# Altium footprint library Connector_USB.PcbLib: 76 footprints (part 5 of 5)
Each footprint in its own frame and in the unit in brackets; x right, y up, seen from the top. Pads: shape width x height; smd on the part's side, far side on the other; paste and mask are expansions set on the pad; w line width, h text height; cw(c..) or ccw(c..) is an arc to the next point about the centre after c.
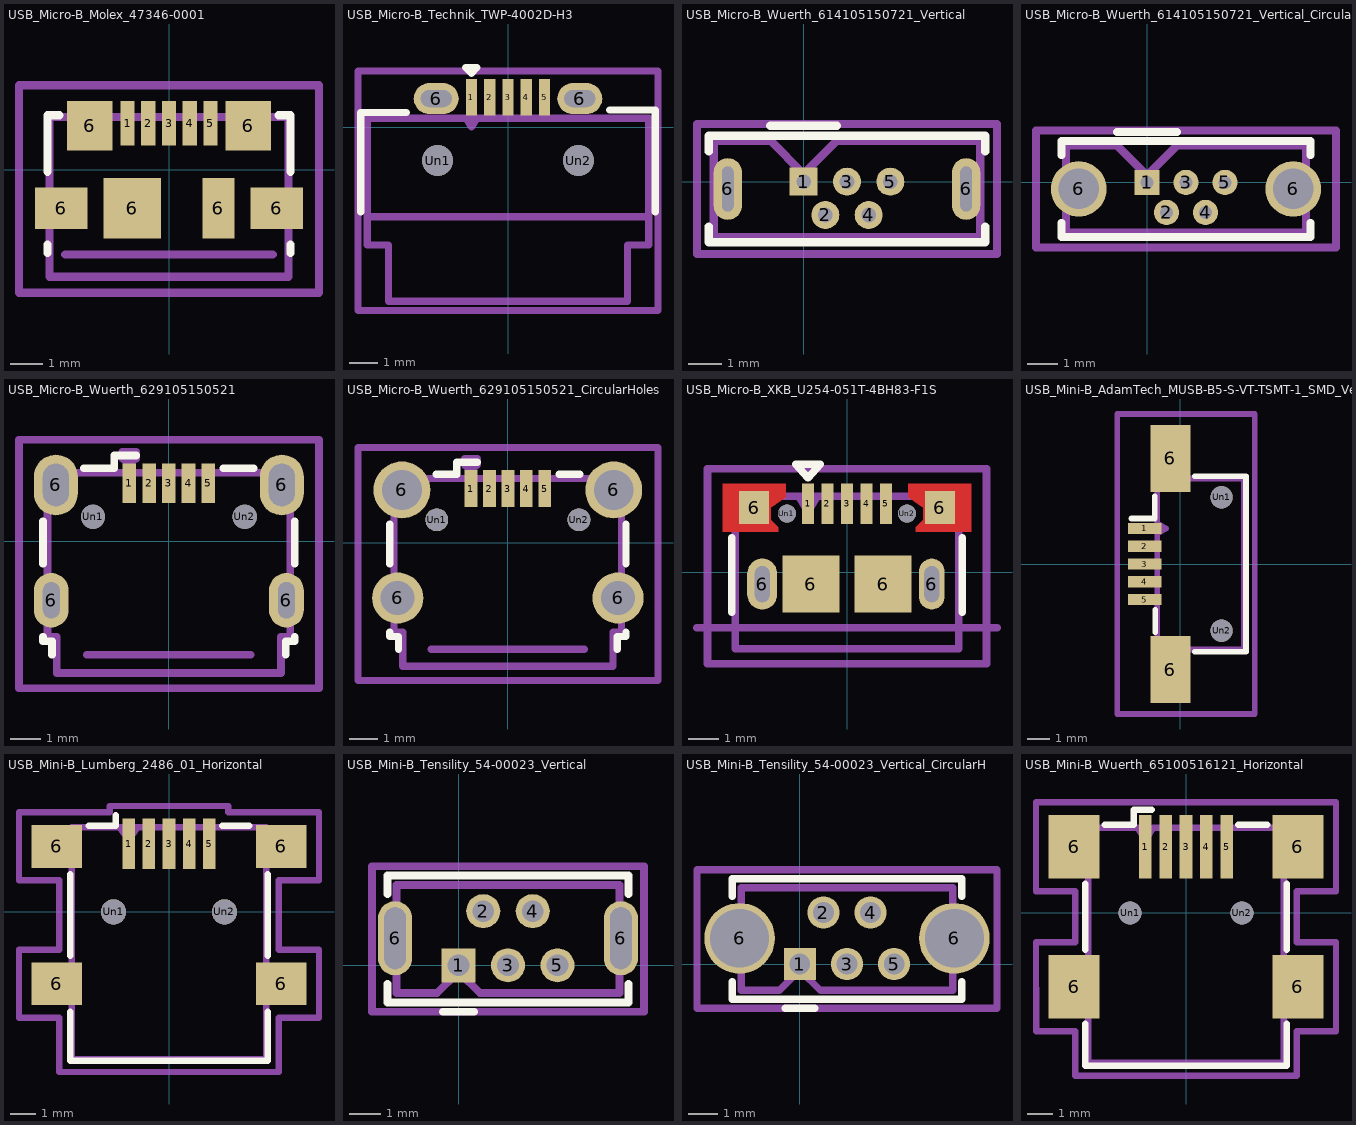
[diagram p4: the footprints below, top view; thin cyan lines are the x and y axes]

## USB_Micro-B_Molex_47346-0001 [mm]
pads (11):
  rect 0.45x1.38 smd: 1(-1.3,1.46) 2(-0.65,1.46) 3(0,1.46) 4(0.65,1.46) 5(1.3,1.46)
  rect 1.65x1.3 smd: 6(-3.375,-1.2) 6(3.375,-1.2)
  rect 1.425x1.55 smd: 6(-2.488,1.375) 6(2.488,1.375)
  rect 1.8x1.9 smd: 6(-1.15,-1.2)
  rect 1x1.9 smd: 6(1.55,-1.2)
F.SilkS:
  lines w0.254: -3.81,-2.6 -3.81,-2.34 ; -3.81,-0.06 -3.81,1.71 -3.43,1.71 ; 3.43,1.71 3.81,1.71 3.81,-0.06 ; 3.81,-2.6 3.81,-2.34
Top Assembly:
  lines w0.254: -3.25,-2.65 3.25,-2.65 ; -3.75,-3.35 3.75,-3.35 3.75,1.65 -3.75,1.65 -3.75,-3.35
  text "'.Designator'" at -4.047,-2.04 h1
Top Courtyard:
  lines w0.254: -4.7,-3.85 4.7,-3.85 4.7,2.65 -4.7,2.65 -4.7,-3.85
Top Designator:
  text ".Designator" at -7.618,-1.108 h1.52
Dwgs.User:
  text "PCB Edge" at -1.359,-2.977 h0.4

## USB_Micro-B_Technik_TWP-4002D-H3 [mm]
pads (9):
  rect 0.4x1.3 smd: 1(-1.3,1.075) 2(-0.65,1.075) 3(0,1.075) 4(0.65,1.075) 5(1.3,1.075)
  rrect100% 1.6x1.1 hole 0.6 slot 1.1 at 0 deg: 6(-2.55,1.025) 6(2.55,1.025)
  round 1.1 hole 1.1: Un1(-2.5,-1.175) Un2(2.5,-1.175)
F.SilkS:
  lines w0.254: -5.23,-2.995 -5.23,0.525 -3.61,0.525 ; 3.61,0.625 5.23,0.625 5.23,-2.995 ; -1.5,2.125 -1.3,1.925 -1.1,2.125 -1.5,2.125
Top Assembly:
  lines w0.254: -1.5,0.325 -1.3,0.025 -1.1,0.325 ; -5,-4.175 -4.25,-4.175 -4.25,-6.175 4.25,-6.175 4.25,-4.175 5,-4.175 5,-3.175 5,0.325 -5,0.325 -5,-3.175 -5,-4.175
  text "'.Designator'" at -4.047,-1.84 h1
Top Courtyard:
  lines w0.254: -5.33,-6.5 5.33,-6.5 5.33,2 -5.33,2 -5.33,-6.5
Top Designator:
  text ".Designator" at -7.618,-2.695 h1.52
Dwgs.User:
  lines w0.254: -5,-3.175 5,-3.175
  text "PCB Edge" at -3.447,-3.317 h1

## USB_Micro-B_Wuerth_614105150721_Vertical [mm]
pads (7):
  rect 0.84x0.84 hole 0.44: 1(0,0)
  round 0.84 hole 0.44: 2(0.65,-1) 3(1.3,0) 4(1.95,-1) 5(2.6,0)
  rrect100% 0.85x1.85 hole 1.35 slot 0.35 at 0 deg: 6(-2.275,-0.22) 6(4.875,-0.22)
F.SilkS:
  lines w0.254: -2.85,-1.345 -2.85,-1.82 5.45,-1.82 5.45,-1.345 ; -2.85,0.905 -2.85,1.38 5.45,1.38 5.45,0.905 ; -1,1.68 1,1.68
Top Assembly:
  lines w0.254: -2.7,-1.67 5.3,-1.67 5.3,1.23 1,1.23 0,0.23 -1,1.23 -2.7,1.23 -2.7,-1.67
  text "'.Designator'" at -2.747,-1.06 h1
Top Courtyard:
  lines w0.254: -3.2,-2.17 5.8,-2.17 5.8,1.73 -3.2,1.73 -3.2,-2.17
Top Designator:
  text ".Designator" at -6.318,-0.728 h1.52

## USB_Micro-B_Wuerth_614105150721_Vertical_CircularHoles [mm]
pads (7):
  rect 0.84x0.84 hole 0.44: 1(0,0)
  round 0.84 hole 0.44: 2(0.65,-1) 3(1.3,0) 4(1.95,-1) 5(2.6,0)
  round 1.85 hole 1.35: 6(-2.275,-0.22) 6(4.875,-0.22)
F.SilkS:
  lines w0.254: -2.85,-1.345 -2.85,-1.82 5.45,-1.82 5.45,-1.345 ; -2.85,0.905 -2.85,1.38 5.45,1.38 5.45,0.905 ; -1,1.68 1,1.68
Top Assembly:
  lines w0.254: -2.7,-1.67 5.3,-1.67 5.3,1.23 1,1.23 0,0.23 -1,1.23 -2.7,1.23 -2.7,-1.67
  text "'.Designator'" at -2.747,-1.06 h1
Top Courtyard:
  lines w0.254: -3.7,-2.17 6.3,-2.17 6.3,1.73 -3.7,1.73 -3.7,-2.17
Top Designator:
  text ".Designator" at -6.318,-0.728 h1.52

## USB_Micro-B_Wuerth_629105150521 [mm]
pads (11):
  rect 0.45x1.3 smd: 1(-1.3,1.9) 2(-0.65,1.9) 3(0,1.9) 4(0.65,1.9) 5(1.3,1.9)
  rrect100% 1.15x1.8 hole 1.2 slot 0.55 at 0 deg: 6(-3.875,-1.95) 6(3.875,-1.95)
  rrect100% 1.45x2 hole 1.4 slot 0.85 at 0 deg: 6(-3.725,1.85) 6(3.725,1.85)
  rrect100% 0.8x0.8 hole 0.8: Un1(-2.5,0.8) Un2(2.5,0.8)
F.SilkS:
  lines w0.254: -4.15,-3.15 -4.15,-3.3 -3.85,-3.3 -3.85,-3.75 ; -4.15,-0.75 -4.15,0.65 ; -2.8,2.4 -1.8,2.4 -1.8,2.825 -1.075,2.825 ; 1.8,2.4 2.8,2.4 ; 3.85,-3.75 3.85,-3.3 4.15,-3.3 4.15,-3.15 ; 4.15,-0.75 4.15,0.65
Top Assembly:
  lines w0.254: -2.7,-3.75 2.7,-3.75 ; -4,-3.15 -3.7,-3.15 -3.7,-4.35 3.7,-4.35 3.7,-3.15 4,-3.15 4,2.25 -4,2.25 -4,-3.15 ; -1.525,2.725 -1.3,2.55 -1.075,2.725 -1.075,2.95 -1.525,2.95 -1.525,2.725
  text "'.Designator'" at -4.047,-1.89 h1
Top Courtyard:
  lines w0.254: -4.94,-4.85 4.95,-4.85 4.95,3.34 -4.94,3.34 -4.94,-4.85
Top Designator:
  text ".Designator" at -7.613,-1.263 h1.52
Dwgs.User:
  text "PCB Edge" at -1.728,-4.163 h0.5

## USB_Micro-B_Wuerth_629105150521_CircularHoles [mm]
pads (11):
  rect 0.45x1.3 smd: 1(-1.3,1.9) 2(-0.65,1.9) 3(0,1.9) 4(0.65,1.9) 5(1.3,1.9)
  round 1.8 hole 1.2: 6(-3.875,-1.95) 6(3.875,-1.95)
  round 2 hole 1.4: 6(-3.725,1.85) 6(3.725,1.85)
  round 0.8 hole 0.8: Un1(-2.5,0.8) Un2(2.5,0.8)
F.SilkS:
  lines w0.254: -4.15,-3.15 -4.15,-3.3 -3.85,-3.3 -3.85,-3.75 ; -4.15,-0.75 -4.15,0.65 ; -2.525,2.4 -1.8,2.4 -1.8,2.825 -1.075,2.825 ; 1.8,2.4 2.525,2.4 ; 3.85,-3.75 3.85,-3.3 4.15,-3.3 4.15,-3.15 ; 4.15,-0.75 4.15,0.65
Top Assembly:
  lines w0.254: -2.7,-3.75 2.7,-3.75 ; -4,-3.15 -3.7,-3.15 -3.7,-4.35 3.7,-4.35 3.7,-3.15 4,-3.15 4,2.25 -4,2.25 -4,-3.15 ; -1.525,2.725 -1.3,2.55 -1.075,2.725 -1.075,2.95 -1.525,2.95 -1.525,2.725
  text "'.Designator'" at -4.047,-1.89 h1
Top Courtyard:
  lines w0.254: -5.27,-4.85 5.28,-4.85 5.28,3.34 -5.27,3.34 -5.27,-4.85
Top Designator:
  text ".Designator" at -7.613,-1.263 h1.52
Dwgs.User:
  text "PCB Edge" at -1.728,-4.163 h0.5

## USB_Micro-B_XKB_U254-051T-4BH83-F1S [mm]
pads (13):
  rect 0.4x1.35 smd: 1(-1.3,2.285) 2(-0.65,2.285) 3(0,2.285) 4(0.65,2.285) 5(1.3,2.285)
  rect 1x1.1 smd: 6(-3.1,2.16) 6(3.1,2.16)
  rrect100% 1x1.7 hole 1.2 slot 0.5 at 0 deg: 6(-2.825,-0.39)
  rect 1.9x1.9 smd: 6(-1.2,-0.39) 6(1.2,-0.39)
  rrect100% 0.85x1.7 hole 1.2 slot 0.5 at 0 deg: 6(2.825,-0.39)
  round 0.6 hole 0.6: Un1(-2,1.96) Un2(2,1.96)
F.Cu:
  region: 4.15,1.36 2.3,1.36 2.3,1.51 2.55,1.76 2.55,2.16 2.05,2.51 2.05,2.96 4.15,2.96
  region: -2.05,2.51 -2.55,2.16 -2.55,1.76 -2.3,1.51 -2.3,1.36 -4.15,1.36 -4.15,2.96 -2.05,2.96
F.SilkS:
  lines w0.254: -3.845,-1.33 -3.845,1.16 ; 3.845,-1.33 3.845,1.16 ; -1.7,3.6 -1.3,3.15 -0.9,3.6 -1.7,3.6
F.Paste:
  region: 4.15,1.36 2.3,1.36 2.3,1.51 2.55,1.76 2.55,2.16 2.05,2.51 2.05,2.96 4.15,2.96
  region: -2.05,2.51 -2.55,2.16 -2.55,1.76 -2.3,1.51 -2.3,1.36 -4.15,1.36 -4.15,2.96 -2.05,2.96
F.Mask:
  region: 4.15,1.36 2.3,1.36 2.3,1.51 2.55,1.76 2.55,2.16 2.05,2.51 2.05,2.96 4.15,2.96
  region: -2.05,2.51 -2.55,2.16 -2.55,1.76 -2.3,1.51 -2.3,1.36 -4.15,1.36 -4.15,2.96 -2.05,2.96
Top Assembly:
  lines w0.254: -1.6,2.54 -1.3,2.04 -1,2.54 ; -3.725,-2.54 3.725,-2.54 3.725,2.54 -3.725,2.54 -3.725,-2.54
  text "'.Designator'" at -4.047,-0.84 h1
Top Courtyard:
  lines w0.254: -4.65,-3.04 4.65,-3.04 4.65,3.46 -4.65,3.46 -4.65,-3.04
Top Designator:
  text ".Designator" at -7.618,-0.228 h1.52
Dwgs.User:
  lines w0.254: -5,-1.84 5,-1.84
  text "PCB Edge" at -1.728,-1.913 h0.5

## USB_Mini-B_AdamTech_MUSB-B5-S-VT-TSMT-1_SMD_Vertical [mm]
pads (9):
  rect 1.5x0.5 smd: 1(-1.6,1.6) 2(-1.6,0.8) 3(-1.6,0) 4(-1.6,-0.8) 5(-1.6,-1.6)
  rect 1.8x3 smd: 6(-0.45,-4.75) 6(-0.45,4.75)
  round 1 hole 1: Un1(1.85,3) Un2(1.85,-3)
F.SilkS:
  lines w0.254: -2.2,2.05 -1.15,2.05 -1.15,3.05 ; -1.139,-3.064 -1.139,-2.064 ; 0.65,-3.95 2.95,-3.95 2.95,3.95 0.65,3.95
Top Assembly:
  lines w0.254: -1.05,-3.85 2.85,-3.85 2.85,3.85 -1.05,3.85 ; -1.05,1.35 -0.65,1.6 -1.05,1.85 ; 0.2,-3.85 0.2,-5.85 -1.05,-5.85 -1.05,5.85 0.2,5.85 0.2,3.85
  text "'.Designator'" at 1.33,-4.062 h1
Top Courtyard:
  lines w0.254: -2.85,-6.75 3.35,-6.75 3.35,6.75 -2.85,6.75 -2.85,-6.75
Top Designator:
  text ".Designator" at -7.368,-0.508 h1.52

## USB_Mini-B_Lumberg_2486_01_Horizontal [mm]
pads (11):
  rect 0.5x2 smd: 1(-1.6,2.7) 2(-0.8,2.7) 3(0,2.7) 4(0.8,2.7) 5(1.6,2.7)
  rect 2x1.7 smd: 6(-4.45,-2.85) 6(-4.45,2.6) 6(4.45,-2.85) 6(4.45,2.6)
  round 1 hole 1: Un1(-2.2,0) Un2(2.2,0)
F.SilkS:
  lines w0.254: -3.91,-3.96 -3.91,-5.91 3.91,-5.91 3.91,-3.96 ; -3.91,-1.74 -3.91,1.49 ; -3.19,3.41 -2.11,3.41 -2.11,3.84 ; 2.11,3.41 3.19,3.41 ; 3.91,-1.74 3.91,1.49
Top Assembly:
  lines w0.254: -1.95,3.35 -1.6,2.85 -1.25,3.35 ; -3.85,-5.85 3.85,-5.85 3.85,3.35 -3.85,3.35 -3.85,-5.85
  text "'.Designator'" at -4.047,-2.44 h1
Top Courtyard:
  lines w0.254: -5.95,-4.2 -4.35,-4.2 -4.35,-6.35 4.35,-6.35 4.35,-4.2 5.95,-4.2 5.95,-1.5 4.35,-1.5 4.35,1.25 5.95,1.25 5.95,3.95 2.35,3.95 2.35,4.2 -2.35,4.2 -2.35,3.95 -5.95,3.95 -5.95,1.25 -4.35,1.25 -4.35,-1.5 -5.95,-1.5 -5.95,-4.2
Top Designator:
  text ".Designator" at -7.618,-1.583 h1.52

## USB_Mini-B_Tensility_54-00023_Vertical [mm]
pads (7):
  rect 1.1x1.1 hole 0.7: 1(0,0)
  round 1.1 hole 0.7: 2(0.8,1.75) 3(1.6,0) 4(2.4,1.75) 5(3.2,0)
  rrect100% 1.1x2.4 hole 2 slot 0.7 at 0 deg: 6(-2.05,0.875) 6(5.25,0.875)
F.SilkS:
  lines w0.254: -2.3,-0.6 -2.3,-1.2 5.5,-1.2 5.5,-0.6 ; -2.3,2.3 -2.3,2.9 5.5,2.9 5.5,2.3 ; -0.5,-1.5 0.5,-1.5
Top Assembly:
  lines w0.254: -2,-0.9 -0.7,-0.9 0,-0.2 0.7,-0.9 5.2,-0.9 5.2,2.6 -2,2.6 -2,-0.9
  text "'.Designator'" at -2.547,0.16 h1
Top Courtyard:
  lines w0.254: -2.8,-1.5 6,-1.5 6,3.2 -2.8,3.2 -2.8,-1.5
Top Designator:
  text ".Designator" at -6.018,0.342 h1.52

## USB_Mini-B_Tensility_54-00023_Vertical_CircularHoles [mm]
pads (7):
  rect 1.1x1.1 hole 0.7: 1(0,0)
  round 1.1 hole 0.7: 2(0.8,1.75) 3(1.6,0) 4(2.4,1.75) 5(3.2,0)
  round 2.4 hole 2: 6(-2.05,0.875) 6(5.25,0.875)
F.SilkS:
  lines w0.254: -2.3,-0.6 -2.3,-1.2 5.5,-1.2 5.5,-0.6 ; -2.3,2.3 -2.3,2.9 5.5,2.9 5.5,2.3 ; -0.5,-1.5 0.5,-1.5
Top Assembly:
  lines w0.254: -2,-0.9 -0.7,-0.9 0,-0.2 0.7,-0.9 5.2,-0.9 5.2,2.6 -2,2.6 -2,-0.9
  text "'.Designator'" at -2.547,0.16 h1
Top Courtyard:
  lines w0.254: -3.5,-1.5 6.7,-1.5 6.7,3.2 -3.5,3.2 -3.5,-1.5
Top Designator:
  text ".Designator" at -6.018,0.342 h1.52

## USB_Mini-B_Wuerth_65100516121_Horizontal [mm]
pads (11):
  rect 0.5x2.5 smd: 1(-1.6,2.6) 2(-0.8,2.6) 3(0,2.6) 4(0.8,2.6) 5(1.6,2.6)
  rect 2x2.5 smd: 6(-4.4,-2.9) 6(-4.4,2.6) 6(4.4,-2.9) 6(4.4,2.6)
  round 0.9 hole 0.9: Un1(-2.2,0) Un2(2.2,0)
F.SilkS:
  lines w0.254: -3.96,-4.35 -3.96,-6.01 3.96,-6.01 3.96,-4.35 ; -3.96,-1.45 -3.96,1.15 ; -3.2,3.46 -2.05,3.46 -2.05,4.05 -1.35,4.05 ; 2.05,3.46 3.2,3.46 ; 3.96,-1.45 3.96,1.15
Top Assembly:
  lines w0.254: -3.85,-5.9 -3.85,3.35 -1.9,3.35 -1.6,2.85 -1.3,3.35 3.85,3.35 3.85,-5.9 -3.85,-5.9
  text "'.Designator'" at -4.047,-0.84 h1
Top Courtyard:
  lines w0.254: -5.9,-1.15 -4.35,-1.15 -4.35,0.85 -5.9,0.85 -5.9,4.35 5.9,4.35 5.9,0.85 4.35,0.85 4.35,-1.15 5.9,-1.15 5.9,-4.65 4.35,-4.65 4.35,-6.4 -4.35,-6.4 -4.35,-4.65 -5.89,-4.65 -5.9,-1.15
Top Designator:
  text ".Designator" at -7.618,-1.533 h1.52